# EAGLE library part LT3024 (library IC)
Linear Technology LT3024 Dual 100mA/500mA Low Dropout, Low Noise, Micropower Regulator
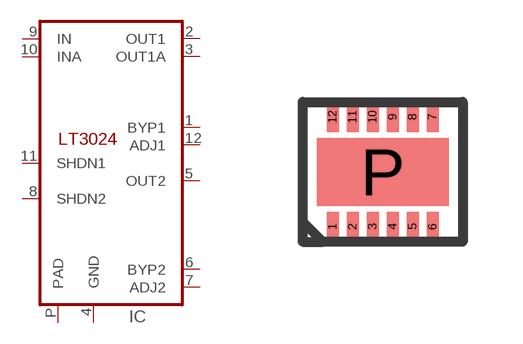
[diagram p140: symbol with the pads of DFN12; footprint DFN12]

Designator prefix IC

## LT3024EDE  [DFN12]
1  BYP1
2  OUT1  out
3  OUT1A  out
4  GND
5  OUT2  out
6  BYP2
7  ADJ2
8  SHDN2
9  IN  in
10  INA  in
11  SHDN1
12  ADJ1
P  PAD

## Footprint DFN12 (pad centres in mm)
smd 0.3 x 0.75: 1 -1.25,-1.375; 2 -0.75,-1.375; 3 -0.25,-1.375; 4 0.25,-1.375; 5 0.75,-1.375; 6 1.25,-1.375; 7 1.25,1.375; 8 0.75,1.375; 9 0.25,1.375; 10 -0.25,1.375; 11 -0.75,1.375; 12 -1.25,1.375
smd 3.3 x 1.7: P 0,0